# EAGLE library part SWITCH-DM-05 (library Discrete)
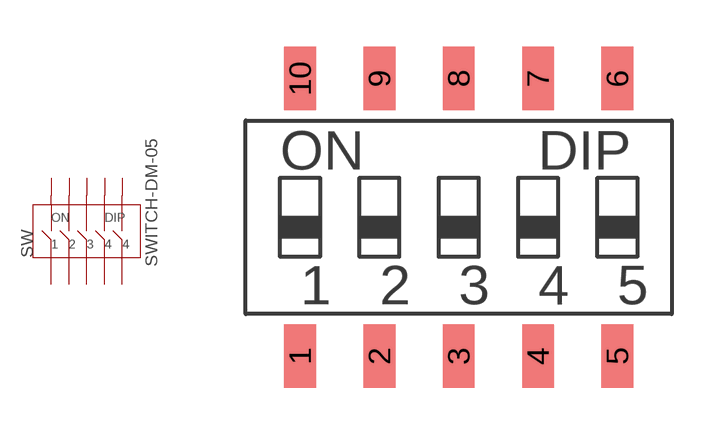
[diagram p17: symbol with the pads of 10P-SMD-13.64X6.2; footprint 10P-SMD-13.64X6.2]

Designator prefix SW

## SWITCH-DM-05  [10P-SMD-13.64X6.2]
1  1
2  2
3  3
4  4
5  5
6  6
7  7
8  8
9  9
10  10

## Footprint 10P-SMD-13.64X6.2 (pad centres in mm)
smd 1.016 x 2.032: 1 -5.08,-4.445; 2 -2.54,-4.445; 3 0,-4.445; 4 2.54,-4.445; 5 5.08,-4.445; 6 5.08,4.445; 7 2.54,4.445; 8 0,4.445; 9 -2.54,4.445; 10 -5.08,4.445